# Altium schematic symbol library IND,10nH,500mA,Wirewound,0402.Schlib: 1 symbol
Pins are listed as number, name and electrical type; pins without a type are passive.

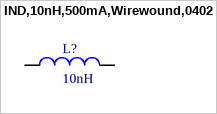
[diagram p0: symbol IND,10nH,500mA,Wirewound,0402]

## IND,10nH,500mA,Wirewound,0402
designator L?, comment 10nH
10nH Unshielded Wirewound Inductor 500mA 170mOhm Max 0402 (1005 Metric)
pins: 1, 2